# EAGLE library part TPS60151 (library m_vreg)
TPS60151 5-V and 140-mA Charge Pump Description The TPS60151 is a switched capacitor voltage converter which produces a regulated, low noise, and low-ripple output voltage of 5 V from an unregulated input voltage. It maintains 5-V regulation even when VIN is greater than 5 V. The 5-V output can supply a minimum of 140-mA current. The TPS60151 has built-in current limit and output reverse current protection that are ideal for HDMI, USB OTG and other battery powered applications. TPS60151 operates in skip mode when the load current falls below 8 mA under typical condition. In skip mode operation, quiescent current is reduced to 90 μA. Only 3 external capacitors are needed to generate the output voltage, thereby saving PCB space. Inrush current is limited by the soft start function during power on and power transient states. The TPS60151 operates over a free air temperature range of –40°C to 85°C. The device is available with a small 2-mm × 2-mm 6-pin SON package (QFN). Features 2.7 V to 5.5 V Input Voltage Range Fixed Output Voltage of 5 V Maximum Output Current: 140 mA 1.5 MHz Switching Frequency Typical 90-μA Quiescent Current at No Load Condition (Skip Mode) Output Reverse Current Protection X2 Charge Pump Hardware Enable and Disable Function Built-in Soft Start Built-in Undervoltage Lock Out Protection Thermal and Over-current Protection 2-mm × 2-mm 6-Pin SON-Package with 0.8-mm Height Octopart Search <https://octopart.com/search?q=TPS60151DRV%3F> Data from TI datasheet SLVSA02A – SEPTEMBER 2009 – REVISED OCTOBER 2015 Added 2017-04-03
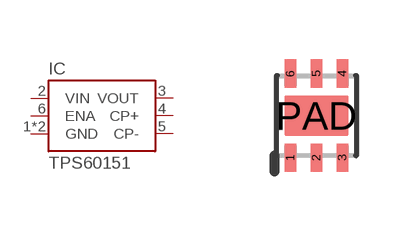
[diagram p18: symbol with the pads of S-PWSON-N6; footprint S-PWSON-N6]

Designator prefix IC

## TPS60151DRV (MANUF: TI; PARTNUM: TPS60151DRV?; VALUE: TPS60151)  [S-PWSON-N6]
1  GND  pas
2  VIN  pas
3  VOUT  pas
4  CP+  pas
5  CP-  pas
6  ENA  pas
PAD  GND  pas

## Footprint S-PWSON-N6 (pad centres in mm)
TI S-PWSON-N6 Plastic Small Outline No-Lead Package Recommended soldermask clearance 0.07mm. Data from TI document 4207812/K 04/15, 4206926/Q 04/15, 4206925/A 10/10
smd 0.3 x 0.7: 1 -0.65,-1.05; 2 0,-1.05; 3 0.65,-1.05; 4 0.65,1.05; 5 0,1.05; 6 -0.65,1.05
smd 1.6 x 1: PAD 0,0